# Altium footprint library Chip1218.PcbLib: 1 footprints
Each footprint in its own frame and in the unit in brackets; x right, y up, seen from the top. Pads: shape width x height; smd on the part's side, far side on the other; paste and mask are expansions set on the pad; w line width, h text height; cw(c..) or ccw(c..) is an arc to the next point about the centre after c.
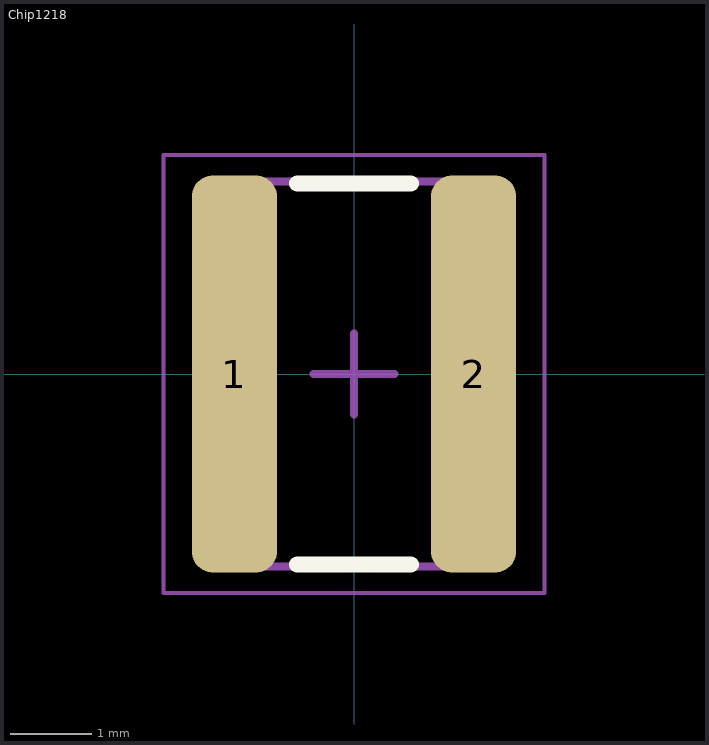
[diagram p0: the footprint, top view; thin cyan lines are the x and y axes]

## Chip1218 [mm] "Chip Resistor, 2-Leads, Body 3.15x4.60mm, IPC Medium Density"
height 0.6
pads (2):
  rrect50% 1.05x4.9 smd: 1(-1.475,0) 2(1.475,0)
Top Overlay:
  lines w0.2: -0.7,-2.35 0.7,-2.35 ; -0.7,2.35 0.7,2.35
Mechanical 13:
  lines w0.1: -1.65,-2.375 -1.65,2.375 1.65,2.375 1.65,-2.375 -1.65,-2.375
Mechanical 15:
  lines w0.05: -2.35,-2.7 -2.35,2.7 2.35,2.7 2.35,-2.7 -2.35,-2.7
  lines w0.1: -0.5,0 0.5,0 ; 0,-0.5 0,0.5
Mechanical 17:
  lines w0.05: -2.35,-2.7 2.35,-2.7 2.35,2.7 -2.35,2.7 -2.35,-2.7
  text ".Designator" at -2.127,-0.623 h1
Mechanical 19:
  lines w0.05: -2.35,-2.7 2.35,-2.7 2.35,2.7 -2.35,2.7 -2.35,-2.7
  text ".Comment" at -2.127,-0.623 h1
3D body: height 0.6, standoff 0, extent -1.2,-2.375 1.2,2.375
3D body: height 0.6, standoff 0, extent -1.65,-2.375 -1.2,2.375
3D body: height 0.6, standoff 0, extent 1.2,-2.375 1.65,2.375